# Altium schematic symbol library ADP715x.SchLib: 1 symbol
Pins are listed as number, name and electrical type; pins without a type are passive.

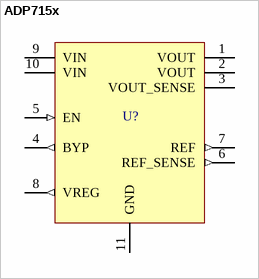
[diagram p0: symbol ADP715x]

## ADP715x
designator U?  (value not drawn)
pins: 1 VOUT (power), 2 VOUT (power), 3 VOUT_SENSE (power), 4 BYP (out), 5 EN (in), 6 REF_SENSE (out), 7 REF (out), 8 VREG (out), 9 VIN (power), 10 VIN (power), 11 GND (power)